# Altium schematic symbol library ATA6561-GAQW-N.SchLib: 1 symbol
Pins are listed as number, name and electrical type; pins without a type are passive.

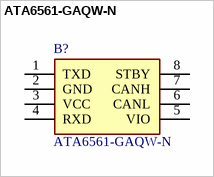
[diagram p0: symbol ATA6561-GAQW-N]

## ATA6561-GAQW-N
designator B?
MICROCHIP - ATA6561-GAQW-N - CAN TRANSCEIVER, 5MBPS, -40 TO 150DEG C; Geometry.Height: 1.75mm; Mouser Part Number: 579-ATA6561-GAQW-N; Mouser Price/Stock: https://www.mouser.co.uk/ProductDetail/Microchip-Technology/ATA6561-GAQW-N?qs=y6ZabgHbY%252BwGbm2JCZMHKQ%3D%3D; Manufacturer_Name: Microchip; Manufacturer_Part_Number: ATA6561-GAQW-N; Datasheet Link: http://ww1.microchip.com/downloads/en/DeviceDoc/ATA6560-ATA6561-High-Speed-CAN-Transceiver-DS20005991A.pdf
footprint SOIC127P600X175-8N
pins: 1 TXD, 2 GND, 3 VCC, 4 RXD, 5 VIO, 6 CANL, 7 CANH, 8 STBY